# Altium schematic symbol library CPLD.SchLib: 3 symbols
Pins are listed as number, name and electrical type; pins without a type are passive.

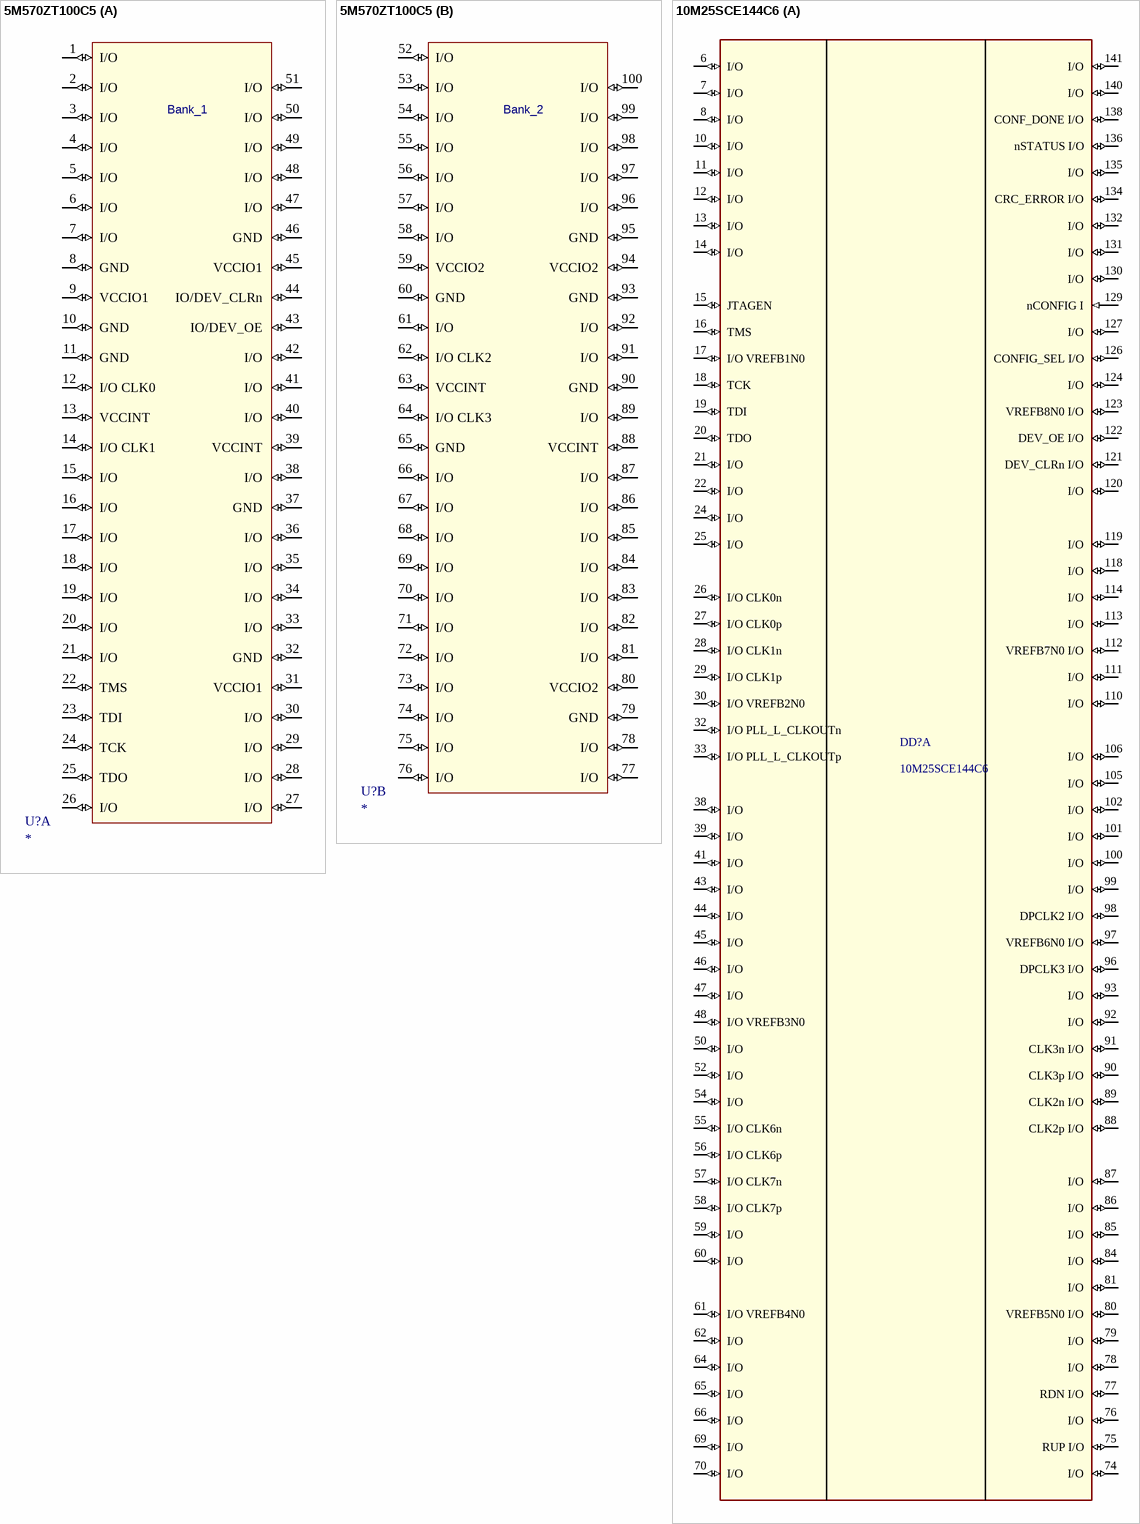
[diagram p0: symbols 5M570ZT100C5 to 10M25SCE144С6]

## 5M570ZT100C5
designator U?
footprint TQFP100
part A pins: 1 I/O (io), 2 I/O (io), 3 I/O (io), 4 I/O (io), 5 I/O (io), 6 I/O (io), 7 I/O (io), 8 GND (io), 9 VCCIO1 (io), 10 GND (io), 11 GND (io), 12 I/O CLK0 (io), 13 VCCINT (io), 14 I/O CLK1 (io), 15 I/O (io), 16 I/O (io), 17 I/O (io), 18 I/O (io), 19 I/O (io), 20 I/O (io), 21 I/O (io), 22 TMS (io), 23 TDI (io), 24 TCK (io), 25 TDO (io), 26 I/O (io), 27 I/O (io), 28 I/O (io), 29 I/O (io), 30 I/O (io), 31 VCCIO1 (io), 32 GND (io), 33 I/O (io), 34 I/O (io), 35 I/O (io), 36 I/O (io), 37 GND (io), 38 I/O (io), 39 VCCINT (io), 40 I/O (io), 41 I/O (io), 42 I/O (io), 43 IO/DEV_OE (io), 44 IO/DEV_CLRn (io), 45 VCCIO1 (io), 46 GND (io), 47 I/O (io), 48 I/O (io), 49 I/O (io), 50 I/O (io), 51 I/O (io)
part B pins: 52 I/O (io), 53 I/O (io), 54 I/O (io), 55 I/O (io), 56 I/O (io), 57 I/O (io), 58 I/O (io), 59 VCCIO2 (io), 60 GND (io), 61 I/O (io), 62 I/O CLK2 (io), 63 VCCINT (io), 64 I/O CLK3 (io), 65 GND (io), 66 I/O (io), 67 I/O (io), 68 I/O (io), 69 I/O (io), 70 I/O (io), 71 I/O (io), 72 I/O (io), 73 I/O (io), 74 I/O (io), 75 I/O (io), 76 I/O (io), 77 I/O (io), 78 I/O (io), 79 GND (io), 80 VCCIO2 (io), 81 I/O (io), 82 I/O (io), 83 I/O (io), 84 I/O (io), 85 I/O (io), 86 I/O (io), 87 I/O (io), 88 VCCINT (io), 89 I/O (io), 90 GND (io), 91 I/O (io), 92 I/O (io), 93 GND (io), 94 VCCIO2 (io), 95 GND (io), 96 I/O (io), 97 I/O (io), 98 I/O (io), 99 I/O (io), 100 I/O (io)
part A text: Bank_1
part B text: Bank_2

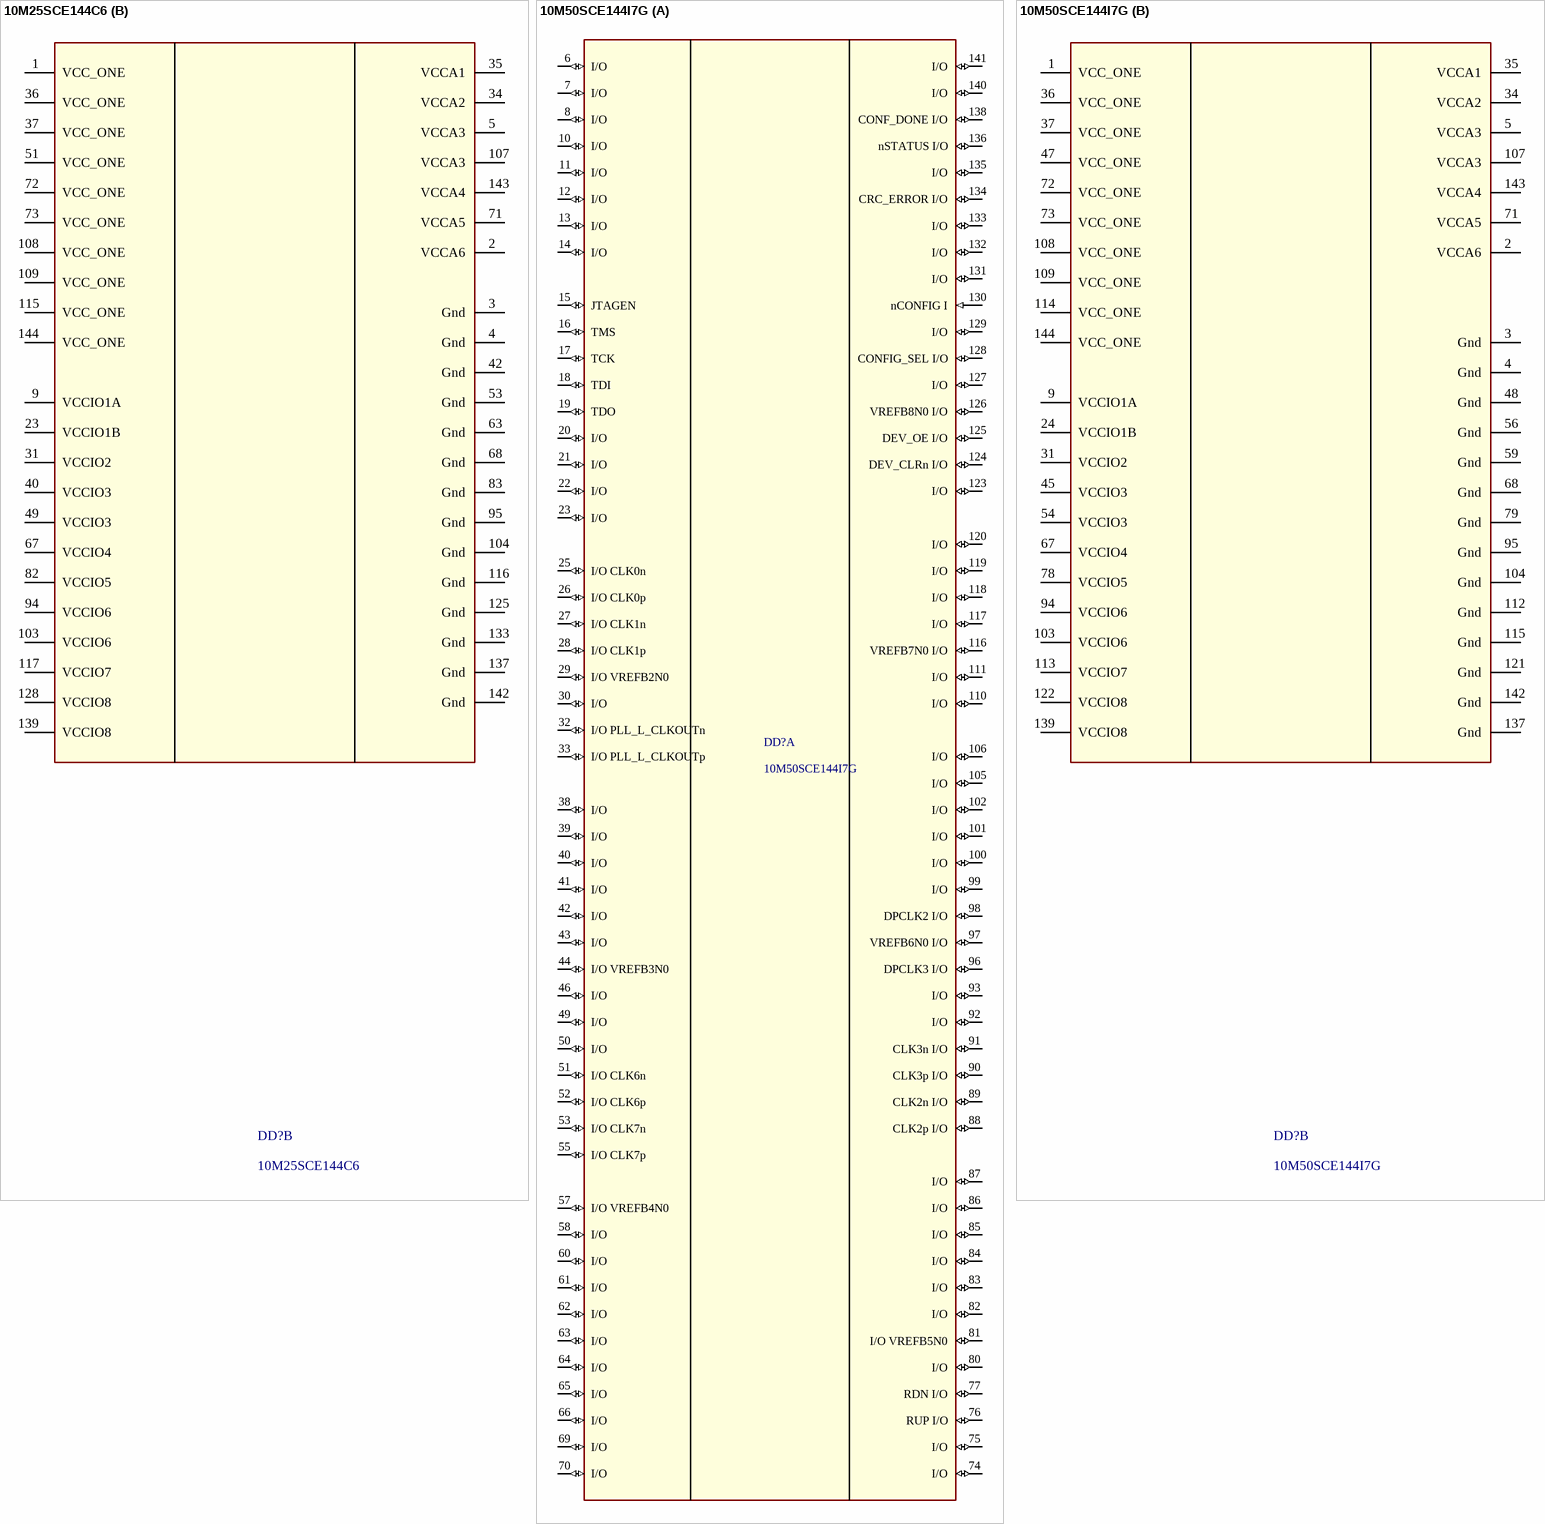
[diagram p1: symbols 10M25SCE144С6 to 10M50SCE144I7G]

## 10M25SCE144С6
designator DD?
footprint EQFP 144 (EQFP, 144-Leads, Body 20,00x20,00mm, Pitch 0,50mm, Thermal Pad 4,00x4,00mm, IPC Medium Density)
part A pins: 6 I/O (io), 7 I/O (io), 8 I/O (io), 10 I/O (io), 11 I/O (io), 12 I/O (io), 13 I/O (io), 14 I/O (io), 15 JTAGEN (io), 16 TMS (io), 17 I/O VREFB1N0 (io), 18 TCK (io), 19 TDI (io), 20 TDO (io), 21 I/O (io), 22 I/O (io), 24 I/O (io), 25 I/O (io), 26 I/O CLK0n (io), 27 I/O CLK0p (io), 28 I/O CLK1n (io), 29 I/O CLK1p (io), 30 I/O VREFB2N0 (io), 32 I/O PLL_L_CLKOUTn (io), 33 I/O PLL_L_CLKOUTp (io), 38 I/O (io), 39 I/O (io), 41 I/O (io), 43 I/O (io), 44 I/O (io), 45 I/O (io), 46 I/O (io), 47 I/O (io), 48 I/O VREFB3N0 (io), 50 I/O (io), 52 I/O (io), 54 I/O (io), 55 I/O CLK6n (io), 56 I/O CLK6p (io), 57 I/O CLK7n (io), 58 I/O CLK7p (io), 59 I/O (io), 60 I/O (io), 61 I/O VREFB4N0 (io), 62 I/O (io), 64 I/O (io), 65 I/O (io), 66 I/O (io), 69 I/O (io), 70 I/O (io), 74 I/O (io), 75 RUP I/O (io), 76 I/O (io), 77 RDN I/O (io), 78 I/O (io), 79 I/O (io), 80 VREFB5N0 I/O (io), 81 I/O (io), 84 I/O (io), 85 I/O (io), 86 I/O (io), 87 I/O (io), 88 CLK2p I/O (io), 89 CLK2n I/O (io), 90 CLK3p I/O (io), 91 CLK3n I/O (io), 92 I/O (io), 93 I/O (io), 96 DPCLK3 I/O (io), 97 VREFB6N0 I/O (io), 98 DPCLK2 I/O (io), 99 I/O (io), 100 I/O (io), 101 I/O (io), 102 I/O (io), 105 I/O (io), 106 I/O (io), 110 I/O (io), 111 I/O (io), 112 VREFB7N0 I/O (io), 113 I/O (io), 114 I/O (io), 118 I/O (io), 119 I/O (io), 120 I/O (io), 121 DEV_CLRn I/O (io), 122 DEV_OE I/O (io), 123 VREFB8N0 I/O (io), 124 I/O (io), 126 CONFIG_SEL I/O (io), 127 I/O (io), 129 nCONFIG I (in), 130 I/O (io), 131 I/O (io), 132 I/O (io), 134 CRC_ERROR I/O (io), 135 I/O (io), 136 nSTATUS I/O (io), 138 CONF_DONE I/O (io), 140 I/O (io), 141 I/O (io)
part B pins: 1 VCC_ONE (power), 2 VCCA6 (power), 3 Gnd (power), 4 Gnd (power), 5 VCCA3 (power), 9 VCCIO1A (power), 23 VCCIO1B (power), 31 VCCIO2 (power), 34 VCCA2 (power), 35 VCCA1 (power), 36 VCC_ONE (power), 37 VCC_ONE (power), 40 VCCIO3 (power), 42 Gnd (power), 49 VCCIO3 (power), 51 VCC_ONE (power), 53 Gnd (power), 63 Gnd (power), 67 VCCIO4 (power), 68 Gnd (power), 71 VCCA5 (power), 72 VCC_ONE (power), 73 VCC_ONE (power), 82 VCCIO5 (power), 83 Gnd (power), 94 VCCIO6 (power), 95 Gnd (power), 103 VCCIO6 (power), 104 Gnd (power), 107 VCCA3 (power), 108 VCC_ONE (power), 109 VCC_ONE (power), 115 VCC_ONE (power), 116 Gnd (power), 117 VCCIO7 (power), 125 Gnd (power), 128 VCCIO8 (power), 133 Gnd (power), 137 Gnd (power), 139 VCCIO8 (power), 142 Gnd (power), 143 VCCA4 (power), 144 VCC_ONE (power)

## 10M50SCE144I7G
designator DD?
footprint EQFP 144 (EQFP, 144-Leads, Body 20,00x20,00mm, Pitch 0,50mm, Thermal Pad 4,00x4,00mm, IPC Medium Density)
part A pins: 6 I/O (io), 7 I/O (io), 8 I/O (io), 10 I/O (io), 11 I/O (io), 12 I/O (io), 13 I/O (io), 14 I/O (io), 15 JTAGEN (io), 16 TMS (io), 17 TCK (io), 18 TDI (io), 19 TDO (io), 20 I/O (io), 21 I/O (io), 22 I/O (io), 23 I/O (io), 25 I/O CLK0n (io), 26 I/O CLK0p (io), 27 I/O CLK1n (io), 28 I/O CLK1p (io), 29 I/O VREFB2N0 (io), 30 I/O (io), 32 I/O PLL_L_CLKOUTn (io), 33 I/O PLL_L_CLKOUTp (io), 38 I/O (io), 39 I/O (io), 40 I/O (io), 41 I/O (io), 42 I/O (io), 43 I/O (io), 44 I/O VREFB3N0 (io), 46 I/O (io), 49 I/O (io), 50 I/O (io), 51 I/O CLK6n (io), 52 I/O CLK6p (io), 53 I/O CLK7n (io), 55 I/O CLK7p (io), 57 I/O VREFB4N0 (io), 58 I/O  (io), 60 I/O (io), 61 I/O  (io), 62 I/O (io), 63 I/O (io), 64 I/O (io), 65 I/O (io), 66 I/O (io), 69 I/O (io), 70 I/O (io), 74 I/O (io), 75 I/O (io), 76 RUP I/O (io), 77 RDN I/O (io), 80 I/O (io), 81 I/O VREFB5N0 (io), 82 I/O (io), 83 I/O (io), 84 I/O (io), 85 I/O (io), 86 I/O (io), 87 I/O (io), 88 CLK2p I/O (io), 89 CLK2n I/O (io), 90 CLK3p I/O (io), 91 CLK3n I/O (io), 92 I/O (io), 93 I/O (io), 96 DPCLK3 I/O (io), 97 VREFB6N0 I/O (io), 98 DPCLK2 I/O (io), 99 I/O (io), 100 I/O (io), 101 I/O (io), 102 I/O (io), 105 I/O (io), 106 I/O (io), 110 I/O (io), 111 I/O (io), 116 VREFB7N0 I/O (io), 117 I/O (io), 118 I/O (io), 119 I/O (io), 120 I/O (io), 123 I/O (io), 124 DEV_CLRn I/O (io), 125 DEV_OE I/O (io), 126 VREFB8N0 I/O (io), 127 I/O (io), 128 CONFIG_SEL I/O (io), 129 I/O (io), 130 nCONFIG I (in), 131 I/O (io), 132 I/O (io), 133 I/O (io), 134 CRC_ERROR I/O (io), 135 I/O (io), 136 nSTATUS I/O (io), 138 CONF_DONE I/O (io), 140 I/O (io), 141 I/O (io)
part B pins: 1 VCC_ONE (power), 2 VCCA6 (power), 3 Gnd (power), 4 Gnd (power), 5 VCCA3 (power), 9 VCCIO1A (power), 24 VCCIO1B (power), 31 VCCIO2 (power), 34 VCCA2 (power), 35 VCCA1 (power), 36 VCC_ONE (power), 37 VCC_ONE (power), 45 VCCIO3 (power), 47 VCC_ONE (power), 48 Gnd (power), 54 VCCIO3 (power), 56 Gnd (power), 59 Gnd (power), 67 VCCIO4 (power), 68 Gnd (power), 71 VCCA5 (power), 72 VCC_ONE (power), 73 VCC_ONE (power), 78 VCCIO5 (power), 79 Gnd (power), 94 VCCIO6 (power), 95 Gnd (power), 103 VCCIO6 (power), 104 Gnd (power), 107 VCCA3 (power), 108 VCC_ONE (power), 109 VCC_ONE (power), 112 Gnd (power), 113 VCCIO7 (power), 114 VCC_ONE (power), 115 Gnd (power), 121 Gnd (power), 122 VCCIO8 (power), 137 Gnd (power), 139 VCCIO8 (power), 142 Gnd (power), 143 VCCA4 (power), 144 VCC_ONE (power)